# Altium footprint library SparkFun-Passives.PCBLIB: 100 footprints (part 3 of 7)
Each footprint in its own frame and in the unit in brackets; x right, y up, seen from the top. Pads: shape width x height; smd on the part's side, far side on the other; paste and mask are expansions set on the pad; w line width, h text height; cw(c..) or ccw(c..) is an arc to the next point about the centre after c.
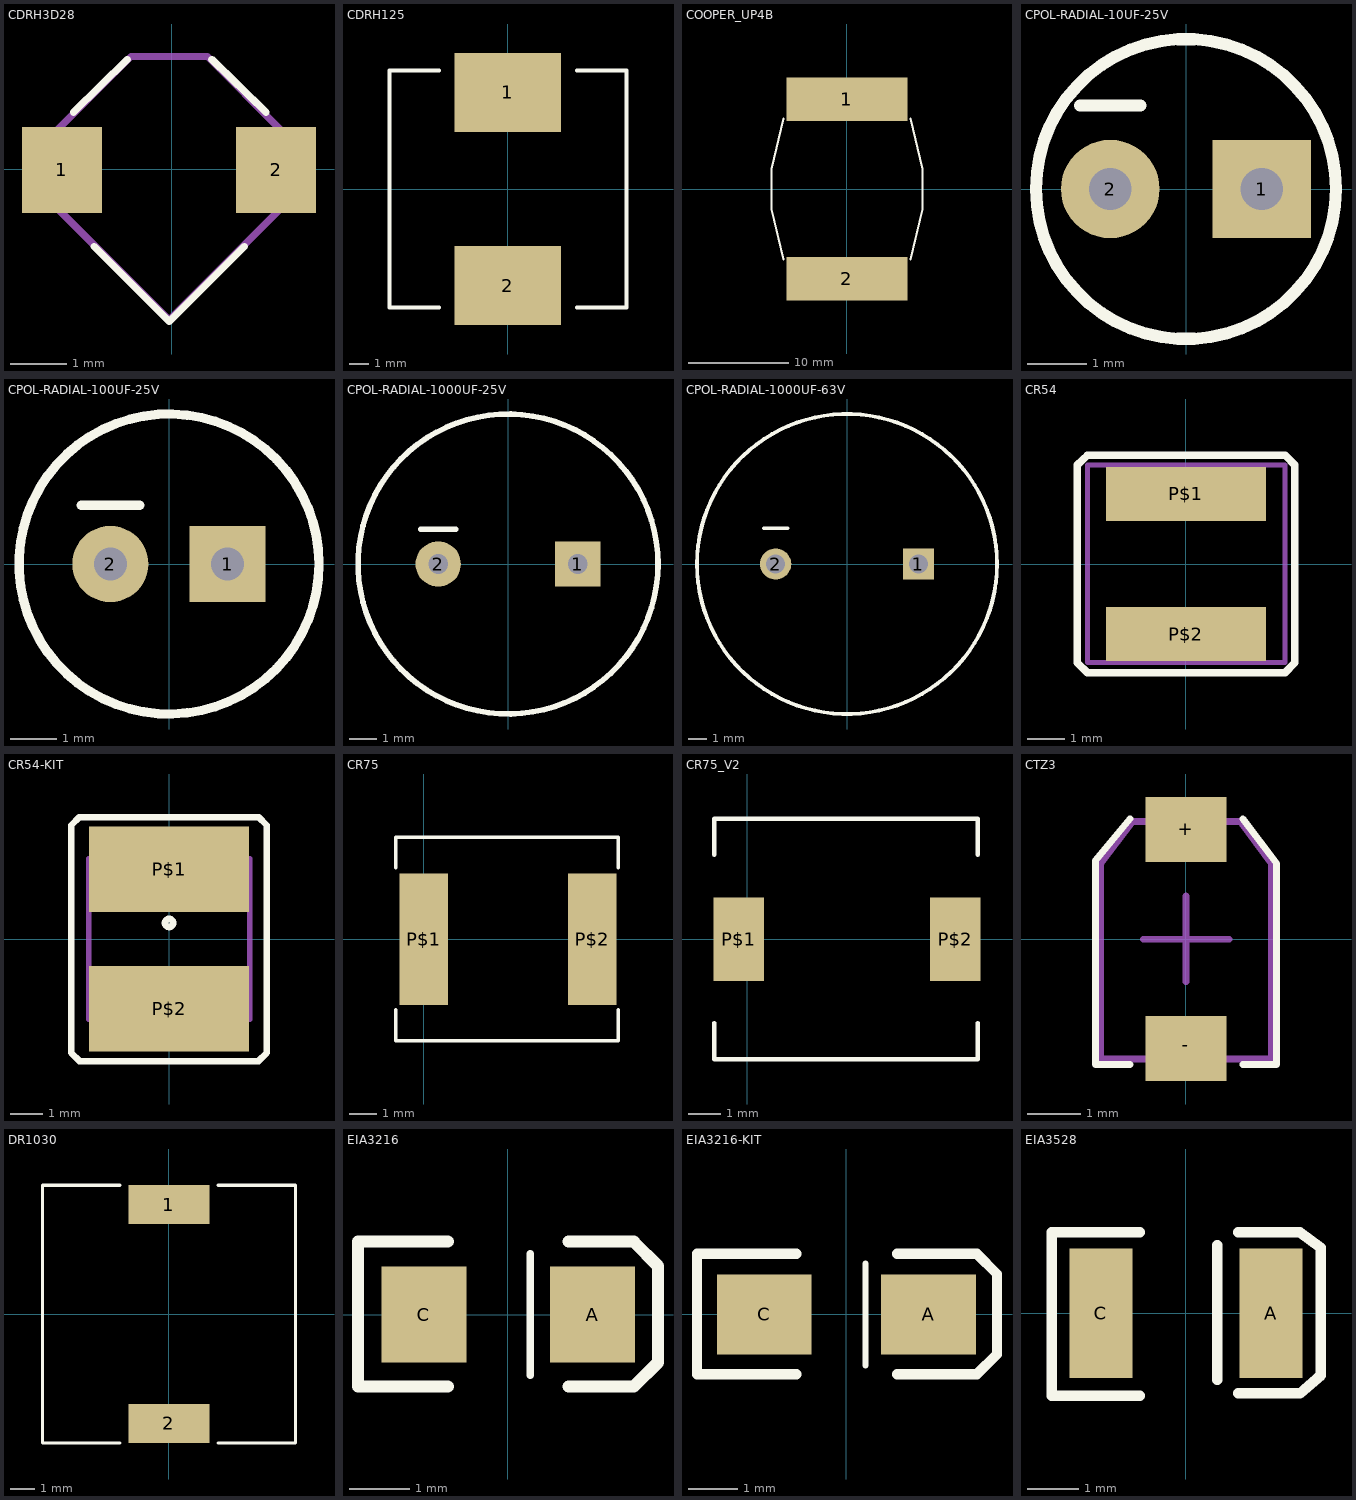
[diagram p2: the footprints below, top view; thin cyan lines are the x and y axes]

## CDRH3D28 [mil]
pads (2):
  rect 56x60 smd: 1(-76.79,-0.28) 2(73,-0.28)
Top Overlay:
  lines w5: -68.64,40 -31.08,77 ; -54.27,-53.74 -1.72,-106.3 51,-53.74 ; 28,77 66,40
Mechanical 2:
  text ">NAME" at -98.11,100 h24.8
Mechanical 4:
  text ">VALUE" at -98.11,-128.74 h24.8
Mechanical 16:
  lines w5: -80.72,-26.65 -80.73,27 -28.37,79 25,79 77,27 77,-26.65 ; -80.45,-26.77 -2.11,-105.11 ; -1.99,-105.31 77,-26.52

## CDRH125 [mil]
pads (2):
  rect 213x158 smd: 1(0,193) 2(0,-192.91)
Top Overlay:
  lines w8: -137.8,-236.22 -236.22,-236.22 -236.22,237 -137.8,237 ; 138,-236.22 237,-236.22 237,237 138,237
Mechanical 2:
  text ">Name" at -100,50 h24.8
Mechanical 4:
  text ">Value" at -100,-50 h24.8

## COOPER_UP4B [mil]
pads (2):
  rect 473x170 smd: 1(0,351) 2(0,-350.39)
Top Overlay:
  lines w8: -248.03,-275.59 -295.28,-78.74 -295.28,79 -248.03,276 ; 249,-275.59 296,-78.74 296,79 249,276
Mechanical 2:
  text ">Name" at -100,50 h24.8
Mechanical 4:
  text ">Value" at -100,-50 h24.8

## CPOL-RADIAL-10UF-25V [mil]
pads (2):
  rect 65x65 hole 28: 1(50,0)
  round 65 hole 28: 2(-50,0)
Top Overlay:
  circle w8: c0,0 r99
  lines w8: -70,55 -30,55
Mechanical 2:
  text ">Name" at -35,60 h24.8
Mechanical 4:
  text ">Value" at -75,-145 h49.6

## CPOL-RADIAL-100UF-25V [mil]
pads (2):
  rect 65x65 hole 28: 1(50,0)
  round 65 hole 28: 2(-50,0)
Top Overlay:
  circle w8: c0,0 r128
  lines w8: -75,50 -25,50
Mechanical 2:
  text ">Name" at -30,65 h24.8
Mechanical 4:
  text ">Value" at -75,-170 h49.6

## CPOL-RADIAL-1000UF-25V [mil]
pads (2):
  rect 65x65 hole 28: 1(100,0)
  round 65 hole 28: 2(-100,0)
Top Overlay:
  circle w8: c0,0 r215
  lines w8: -125,50 -75,50
Mechanical 2:
  text ">Name" at -30,115 h24.8
Mechanical 4:
  text ">Value" at -75,-170 h49.6

## CPOL-RADIAL-1000UF-63V [mil]
pads (2):
  rect 65x65 hole 40: 1(150,0)
  round 66 hole 40: 2(-150,0)
Top Overlay:
  circle w8: c0,0 r315
  lines w8: -175,75 -125,75
Mechanical 2:
  text ">Name" at -100,400 h49.6
Mechanical 4:
  text ">Value" at -100,350 h49.6

## CR54 [mil]
pads (2):
  rect 166x56 smd: P$1(0,73) P$2(0,-72.83)
Top Overlay:
  lines w8: -112.99,-102.36 -112.99,103 -102.36,113 103,113 113,103 113,-102.36 103,-112.99 -102.36,-112.99 -112.99,-102.36
Mechanical 2:
  text ">Name" at -80.31,17 h24.8
Mechanical 4:
  text ">Value" at -80.31,-23.23 h24.8
Mechanical 16:
  rectangle: -82.68,46 83,101
  rectangle: -82.68,-100.39 83,-45.28
  lines w5: -102.36,-102.36 -102.36,103 103,103 103,-102.36 -102.36,-102.36

## CR54-KIT [mil]
pads (2):
  rect 197x105 smd: P$1(0,86) P$2(0,-85.43)
Top Overlay:
  circle w8: c0,20 r5
  lines w8: -120,-139.69 -110,-149.69 110,-149.69 120,-139.69 120,140 110,150 -110,150 -120,140 -120,-139.69
Mechanical 2:
  text ">Name" at -100,158 h24.8
Mechanical 4:
  text ">Value" at -106.3,-172.83 h24.8
Mechanical 16:
  lines w7: -98.43,-98.43 -98.43,99 99,99 99,-98.43 -98.43,-98.43

## CR75 [mil]
pads (2):
  rect 69x186 smd: P$1(0,0) P$2(239,0)
Top Overlay:
  lines w5: -39.37,-100.39 -39.37,-143.7 276,-143.7 276,-100.39 ; -39.37,101 -39.37,144 276,144 276,101

## CR75_V2 [mil]
pads (2):
  rect 60x100 smd: P$1(-10,0) P$2(249,0)
Top Overlay:
  lines w5: -39.37,-100.39 -39.37,-143.7 276,-143.7 276,-100.39 ; -39.37,101 -39.37,144 276,144 276,101

## CTZ3 [mil]
pads (2):
  rect 60x48 smd: +(0,81) -(0,-80.71)
Top Overlay:
  lines w5: -41.34,-92.52 -66.93,-92.52 -66.93,58 -41.34,89 ; 42,-92.52 67,-92.52 67,56 42,89
Mechanical 2:
  text ">NAME" at -78.74,119 h24.8
Mechanical 4:
  text ">VALUE" at -78.74,-133.86 h24.8
Mechanical 16:
  lines w5: -31.5,0 32,0 ; -19.68,0 20,0 ; 0,-31.5 0,32 ; -62.99,-88.58 -62.99,56 -39.37,87 40,87 63,56 63,-88.58 -62.99,-88.58

## DR1030 [mil]
pads (2):
  rect 130x63 smd: 1(0,176) 2(0,-175.2)
Top Overlay:
  lines w5: -78.74,-206.69 -202.76,-206.69 -202.76,207 -78.74,207 ; 79,-206.69 203,-206.69 203,207 79,207
Mechanical 2:
  text ">NAME" at -150,50 h24.8
Mechanical 4:
  text ">VALUE" at -150,-50 h24.8

## EIA3216 [mil]
pads (2):
  rect 56x63 smd: A(56,0) C(-55.12,0)
Top Overlay:
  lines w5: 15,-40 15,40
  lines w8: -39.37,-47.24 -98.43,-47.24 -98.43,48 -39.37,48 ; 40,-47.24 83,-47.24 99,-31.5 99,32 83,48 40,48
Mechanical 2:
  text ">NAME" at -100,55 h24.8
Mechanical 4:
  text ">VALUE" at 17,53 h24.8

## EIA3216-KIT [mil]
pads (2):
  rect 75x63 smd: A(65,0) C(-64.96,0)
Top Overlay:
  lines w5: 15,-40 15,40
  lines w8: -39.37,-47.24 -118.11,-47.24 -118.11,48 -39.37,48 ; 40,-47.24 103,-47.24 119,-31.5 119,32 103,48 40,48
Mechanical 2:
  text ">NAME" at -100,55 h24.8
Mechanical 4:
  text ">VALUE" at 17,53 h24.8

## EIA3528 [mil]
pads (2):
  rect 48x99 smd: A(65,0) C(-64.96,0)
Top Overlay:
  lines w8: -35.43,-62.99 -102.36,-62.99 -102.36,62 -35.43,62 ; 24,-50.63 24,52 ; 40,-61.02 87,-61.02 103,-47.24 103,50 87,62 ; 87,62 40,62 87,62
Mechanical 2:
  text ">NAME" at -89.37,-50 h77.5
Mechanical 4:
  text ">VALUE" at 128,-53.94 h77.5